# Altium integrated library MiniFly .IntLib: 25 symbols
Pins are listed as number, name and electrical type; pins without a type are passive.

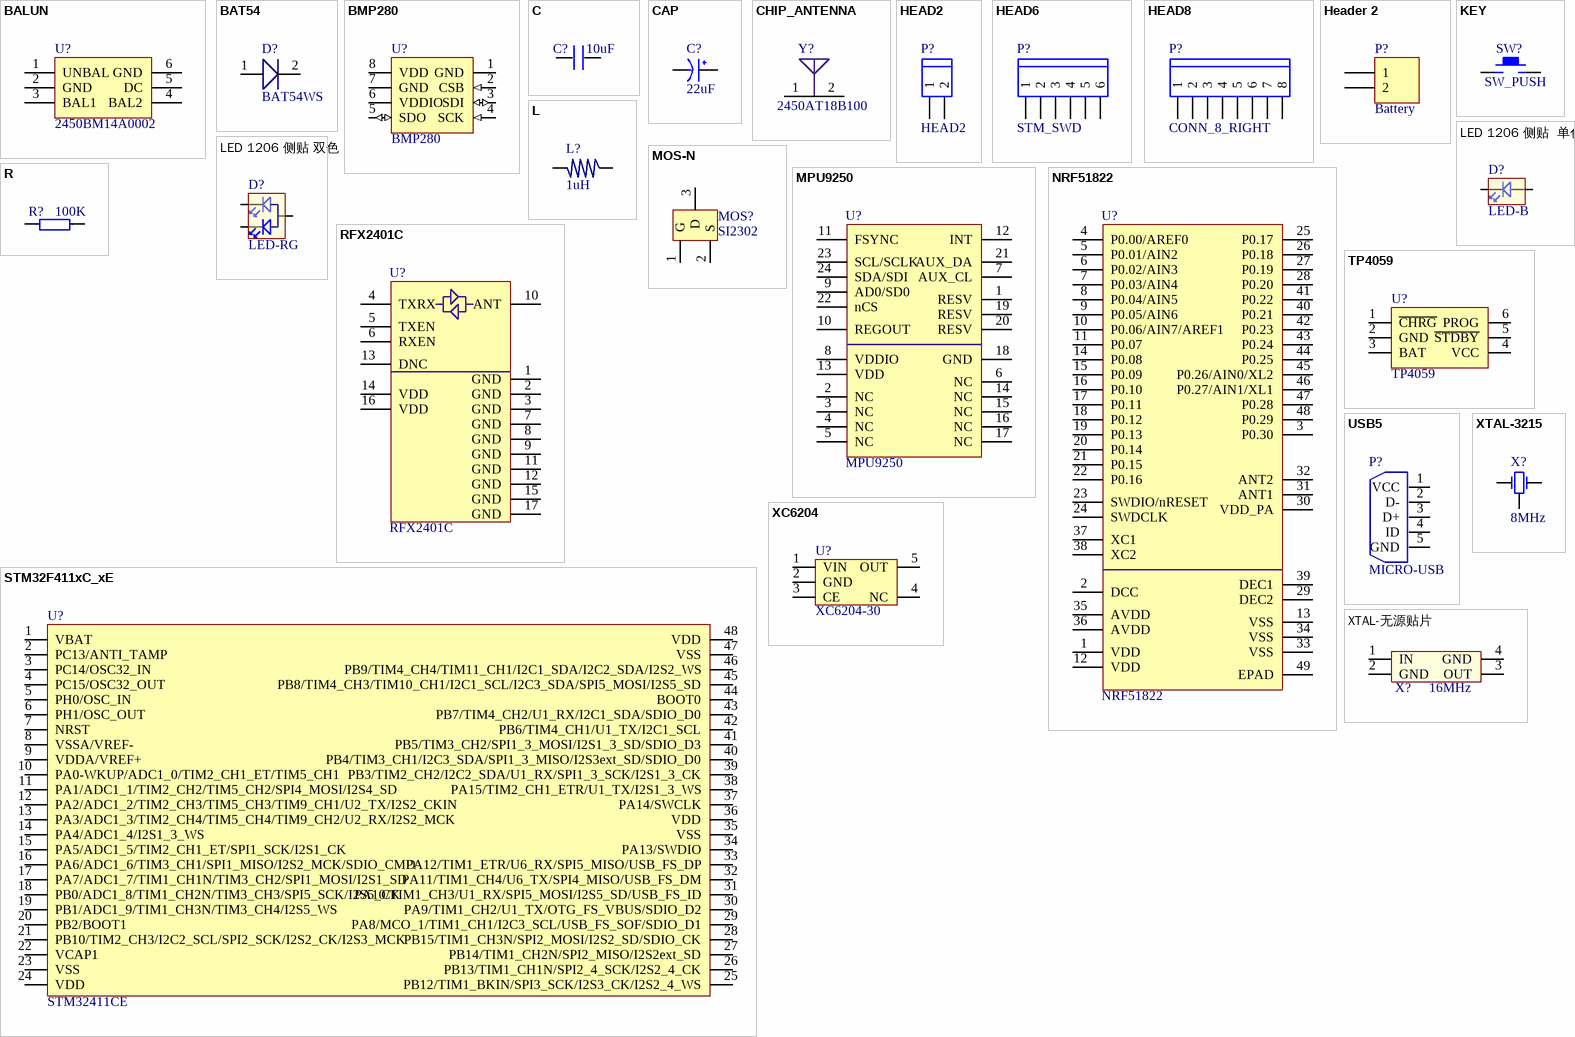
[diagram p0: symbols BALUN to XTAL-无源贴片]

## BALUN
designator U?, comment 2450BM14A0002
footprint 0603-6 (SOIC, 6-Leads, Body 1.6x0.6mm (max), Pitch 1.27mm, IPC Medium Density)
pins: 1 UNBAL, 2 GND, 3 BAL1, 4 BAL2, 5 DC, 6 GND

## BAT54
designator D?, comment BAT54WS
单肖特基二极管
footprint SOT-23 (SOT-23; 3 Leads; Body 3.0 x 2.5 mm, inc. leads (LxW max))
footprint SOD-323
footprint SOD-123
pins: 1, 2

## BMP280
designator U?
footprint LGA-8 (2.0x2.5x0.95)
pins: 1 GND, 2 CSB (in), 3 SDI (io), 4 SCK (in), 5 SDO (io), 6 VDDIO (power), 7 GND (power), 8 VDD (power)

## C
designator C?, comment 10uF
footprint 0603P
footprint 0805
footprint CC5.08 (CAP0.1)
footprint CC4.572 (222/332)
footprint 1206
footprint 1210
footprint CC6.096
footprint CC7.62
footprint CVAR (4MM*6.6MM)
footprint C 5.08    7.5mm x4.5mm
footprint C  P5-7-10  W=4mm (P5/P7/P10      W=4mm)
footprint C  P5-7-10  W=6mm (P5/P7/P10      W=6mm)
footprint C  P5-7-10  W=9mm (P5/P7/P10      W=9mm)
footprint 0402
footprint 1218
footprint 2010
footprint 2512
pins: 1, 2

## CAP
designator C?, comment 22uF
footprint C1206
footprint CAP2.54 (RB.1/.2)
footprint CAP7.62 (25V 2200uF)
footprint CAP10.16 (50V10000uF)
footprint CAP10.9 (50V 2200uF)
footprint CAP3.0 (100V 10uF)
footprint CAP8.0 (25V/4700uF)
footprint CAP8.0_2 (50V/4700uF)
footprint C7040 (7MM*4MM)
footprint CC1010 (SMD;W:10mm;L:10mm;)
footprint CC6.56.5 (SMD;W:6.5mm;L:6.5mm;)
footprint CC88 (SMD;W:8mm;L:8mm;)
footprint CAP2.54M (6mm*8mm)
footprint CAP12.5 (12.5mm*20mm,pin:5.08mm)
footprint C3528
footprint CC5.35.3
footprint CAP7.62  侧式 (50V 4700uF)
footprint CAP7.62  侧式 - A (50V 4700uF)
footprint C0805 钽电容
footprint CAP5.08 R=13 侧式 (RB 5.08  13x20)
footprint CAP5.08 R=13 侧式-A (RB 5.08  13x20)
footprint CAP5.08 R=10 (RB 5.08/10)
footprint CAP5.08 R=13 (RB 5.08/13)
pins: 1 VCC, 2 GND

## CHIP_ANTENNA
designator Y?, comment 2450AT18B100
footprint 1206
pins: 1 FP, 2 NC

## HEAD2
designator P?
footprint HEAD2H (HEAD5.08)
footprint HEAD2L (HEAD5.08)
footprint HEAD2L-0.8 (10.16mm*10.16mm,pin:5.08mm)
footprint HEAD2W (2EDG-2,pin:5.08mm)
footprint KF2EDGR(5.08) - 02 (拔插接线端子   卧式)
footprint KF2EDGV(5.08) - 02 (拔插接线端子   立式)
footprint HEADER2-1.25MM
footprint HEADER2-2.0MM
pins: 1, 2

## HEAD6
designator P?, comment STM_SWD
footprint HEAD6L-0.8 (30mm*8mm,pin:5.08mm)
footprint KF2EDGR(5.08) - 06 (拔插接线端子   卧式)
footprint KF2EDGV(5.08) - 06 (拔插接线端子   立式)
footprint SH1.0-6P
footprint HEADER6-2.0MM
pins: 1, 2, 3, 4, 5, 6

## HEAD8
designator P?, comment CONN_8_RIGHT
footprint HEADER8-2.0MM
footprint HEADER8-2.0MM-D
footprint HEADER8-2.0MM-SMD
pins: 1, 2, 3, 4, 5, 6, 7, 8

## Header 2
designator P?, comment Battery
Header, 2-Pin; LatestRevisionDate: 17-Jul-2002; LatestRevisionNote: Re-released for DXP Platform.; Publisher: Altium Limited
footprint HDR1X2 (Connector; Header; 2 Position)
signal-integrity model Connector
pins: 1, 2

## KEY
designator SW?, comment SW_PUSH
footprint KEY_M (KEY_MID)
footprint KEY_2 (KEY?)
footprint KEY_SOP_BG (KEY?)
footprint KEY 侧式 (按键 贴片 侧式)
footprint KEY_2S
pins: 1, 2

## L
designator L?, comment 1uH
footprint L3A (L)
footprint L4.7
footprint L_USER (SELF_DEF)
footprint L10 (10mH)
footprint SMD7850
footprint 0805
footprint 1206
footprint L_SOPL (L_LARGE)
footprint L_CD43 (4mm*4mm)
footprint 0603P
footprint L  9mm x20mm
footprint Lx2 DIP (L=17.5mm  W=15mm  R= 8mm)
pins: 1, 2

## LED 1206 侧贴  单色
designator D?, comment LED-B
LED 1206 侧贴  单色
footprint LED1206  侧贴
pins: 1, 2 hidden, 3

## LED 1206 侧贴 双色
designator D?, comment LED-RG
LED 1206 侧贴 双色
footprint LED1206  侧贴
pins: 1, 2, 3

## MOS-N
designator MOS?, comment SI2302
AP2306
footprint SO-G3/C2.5 (SOT-23; 3 Leads; Body 3.0 x 2.6 mm, inc. leads (LxW max))
pins: 1 G, 2 S, 3 D

## MPU9250
designator U?
footprint QFN24 (QFN, 24-Leads, Body 4.0x4.0mm (max), Pitch 0.50mm, IPC Medium Density)
footprint QFN24-0.4 (QFN, 24-Leads, Body 3.0x3.0mm (max), Pitch 0.40mm, IPC Medium Density)
pins: 1 RESV, 2 NC, 3 NC, 4 NC, 5 NC, 6 NC, 7 AUX_CL, 8 VDDIO, 9 AD0/SD0, 10 REGOUT, 11 FSYNC, 12 INT, 13 VDD, 14 NC, 15 NC, 16 NC, 17 NC, 18 GND, 19 RESV, 20 RESV, 21 AUX_DA, 22 nCS, 23 SCL/SCLK, 24 SDA/SDI

## NRF51822
designator U?
footprint QFN48M-04 (QFN, 48-Leads, Body 6.0x6.0mm (max), Pitch 0.40mm, IPC Low Density)
pins: 1 VDD, 2 DCC, 3 P0.30, 4 P0.00/AREF0, 5 P0.01/AIN2, 6 P0.02/AIN3, 7 P0.03/AIN4, 8 P0.04/AIN5, 9 P0.05/AIN6, 10 P0.06/AIN7/AREF1, 11 P0.07, 12 VDD, 13 VSS, 14 P0.08, 15 P0.09, 16 P0.10, 17 P0.11, 18 P0.12, 19 P0.13, 20 P0.14, 21 P0.15, 22 P0.16, 23 SWDIO/nRESET, 24 SWDCLK, 25 P0.17, 26 P0.18, 27 P0.19, 28 P0.20, 29 DEC2, 30 VDD_PA, 31 ANT1, 32 ANT2, 33 VSS, 34 VSS, 35 AVDD, 36 AVDD, 37 XC1, 38 XC2, 39 DEC1, 40 P0.21, 41 P0.22, 42 P0.23, 43 P0.24, 44 P0.25, 45 P0.26/AIN0/XL2, 46 P0.27/AIN1/XL1, 47 P0.28, 48 P0.29, 49 EPAD

## R
designator R?, comment 100K
footprint 0805
footprint 0603P
footprint RL (10o/0.7uH)
footprint R16.0 (RX/1W)
footprint 1206
footprint 1210
footprint R20.0 (RX/2W)
footprint R10.16 (STD)
footprint RLN9 (13.5mm*5.1mm)
footprint 1218
footprint 2010
footprint 2512
footprint 0402
pins: 1, 2

## RFX2401C
designator U?
footprint QFN16 (QFN, 16-Leads, Body 3.1x3.1mm (max), Pitch 0.50mm, IPC Medium Density)
footprint QFN16M
pins: 1 GND, 2 GND, 3 GND, 4 TXRX, 5 TXEN, 6 RXEN, 7 GND, 8 GND, 9 GND, 10 ANT, 11 GND, 12 GND, 13 DNC, 14 VDD, 15 GND, 16 VDD, 17 GND

## STM32F411xC_xE
designator U?, comment STM32411CE
STM32411xC_xE
footprint UFQFPN48 (QFN, 48-Leads, Body 7.1x7.1mm (max), Pitch 0.50mm, IPC High Density)
pins: 1 VBAT, 2 PC13/ANTI_TAMP, 3 PC14/OSC32_IN, 4 PC15/OSC32_OUT, 5 PH0/OSC_IN, 6 PH1/OSC_OUT, 7 NRST, 8 VSSA/VREF-, 9 VDDA/VREF+, 10 PA0-WKUP/ADC1_0/TIM2_CH1_ET/TIM5_CH1, 11 PA1/ADC1_1/TIM2_CH2/TIM5_CH2/SPI4_MOSI/I2S4_SD, 12 PA2/ADC1_2/TIM2_CH3/TIM5_CH3/TIM9_CH1/U2_TX/I2S2_CKIN, 13 PA3/ADC1_3/TIM2_CH4/TIM5_CH4/TIM9_CH2/U2_RX/I2S2_MCK, 14 PA4/ADC1_4/I2S1_3_WS, 15 PA5/ADC1_5/TIM2_CH1_ET/SPI1_SCK/I2S1_CK, 16 PA6/ADC1_6/TIM3_CH1/SPI1_MISO/I2S2_MCK/SDIO_CMD, 17 PA7/ADC1_7/TIM1_CH1N/TIM3_CH2/SPI1_MOSI/I2S1_SD, 18 PB0/ADC1_8/TIM1_CH2N/TIM3_CH3/SPI5_SCK/I2S5_CK, 19 PB1/ADC1_9/TIM1_CH3N/TIM3_CH4/I2S5_WS, 20 PB2/BOOT1, 21 PB10/TIM2_CH3/I2C2_SCL/SPI2_SCK/I2S2_CK/I2S3_MCK, 22 VCAP1, 23 VSS, 24 VDD, 25 PB12/TIM1_BKIN/SPI3_SCK/I2S3_CK/I2S2_4_WS, 26 PB13/TIM1_CH1N/SPI2_4_SCK/I2S2_4_CK, 27 PB14/TIM1_CH2N/SPI2_MISO/I2S2ext_SD, 28 PB15/TIM1_CH3N/SPI2_MOSI/I2S2_SD/SDIO_CK, 29 PA8/MCO_1/TIM1_CH1/I2C3_SCL/USB_FS_SOF/SDIO_D1, 30 PA9/TIM1_CH2/U1_TX/OTG_FS_VBUS/SDIO_D2, 31 PA10/TIM1_CH3/U1_RX/SPI5_MOSI/I2S5_SD/USB_FS_ID, 32 PA11/TIM1_CH4/U6_TX/SPI4_MISO/USB_FS_DM, 33 PA12/TIM1_ETR/U6_RX/SPI5_MISO/USB_FS_DP, 34 PA13/SWDIO, 35 VSS, 36 VDD, 37 PA14/SWCLK, 38 PA15/TIM2_CH1_ETR/U1_TX/I2S1_3_WS, 39 PB3/TIM2_CH2/I2C2_SDA/U1_RX/SPI1_3_SCK/I2S1_3_CK, 40 PB4/TIM3_CH1/I2C3_SDA/SPI1_3_MISO/I2S3ext_SD/SDIO_D0, 41 PB5/TIM3_CH2/SPI1_3_MOSI/I2S1_3_SD/SDIO_D3, 42 PB6/TIM4_CH1/U1_TX/I2C1_SCL, 43 PB7/TIM4_CH2/U1_RX/I2C1_SDA/SDIO_D0, 44 BOOT0, 45 PB8/TIM4_CH3/TIM10_CH1/I2C1_SCL/I2C3_SDA/SPI5_MOSI/I2S5_SD, 46 PB9/TIM4_CH4/TIM11_CH1/I2C1_SDA/I2C2_SDA/I2S2_WS, 47 VSS, 48 VDD

## TP4059
designator U?
footprint SOT23-6S
pins: 1 ~{CHRG}, 2 GND, 3 BAT, 4 VCC, 5 ~{STDBY}, 6 PROG

## USB5
designator P?, comment MICRO-USB
footprint USB/SM0.8-6H5
footprint Micro usb座 (Micro usb座 5pin)
footprint Micro usb座 -全贴片
footprint MICROUSB-SOP
footprint MICRO_USB5P_SOP
pins: 1 VCC, 2 D-, 3 D+, 4 ID, 5 GND

## XC6204
designator U?, comment XC6204-30
footprint SOT-23-5
footprint SOT23-5S
pins: 1 VIN, 2 GND, 3 CE, 4 NC, 5 OUT

## XTAL-3215
designator X?, comment 8MHz
footprint XTAL3215
pins: 1 OSC1, 2 GND, 3 OSC2

## XTAL-无源贴片
designator X?, comment 16MHz
无源贴片晶振
footprint XTAL3225   无源 (32*25mm 无源晶振贴片)
pins: 1 IN, 2 GND, 3 OUT, 4 GND